# Altium schematic symbol library WE-CHSA.SchLib: 54 symbols
Pins are listed as number, name and electrical type; pins without a type are passive.

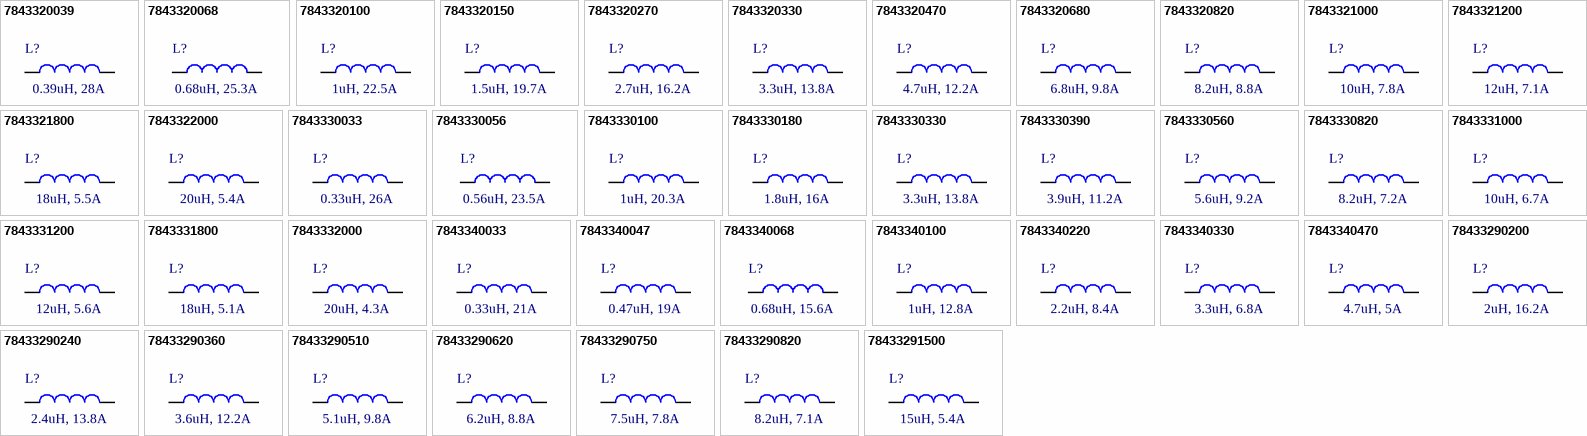
[diagram p0: symbols 7843320039 to 78433291500]

## 7843320039
designator L?, comment 0.39uH, 28A
WE-CHSA SMT High Current Inductor, size 1212, 0.39uH, 28A, 1.35mOhm; Manufacturer Part Number: 7843320039; Manufacturer: Wurth Elektronik; Case/Size Code: 1212; Saturation Current: 57A; Self Resonant Frequency: 100MHz; Category: Power Inductors; Match Code: WE-CHSA; ComponentLink1Description: Website Link; ComponentLink1URL: https://www.we-online.com/redexpert/article/7843320039?ad; ComponentLink2Description: Datasheet Link; ComponentLink2URL: https://www.we-online.com/redexpert/spec/7843320039?ad; Mount: Surface Mount; Operating Temperature Min: -55°C; Operating Temperature Max: 150°C; Packaging: Tape and Reel; Length: 12.2mm; Width: 12.2mm; Height: 11.75mm; Automotive: Yes; DC Resistance: 1.35mOhm; Inductance: 0.39uH; Rated Current: 28A
footprint WE-CHSA_1212
simulation model 1212_7843320039_0.39u
pins: 1, 2

## 7843320068
designator L?, comment 0.68uH, 25.3A
WE-CHSA SMT High Current Inductor, size 1212, 0.68uH, 25.3A, 1.7mOhm; Manufacturer Part Number: 7843320068; Manufacturer: Wurth Elektronik; Case/Size Code: 1212; Saturation Current: 41.4A; Self Resonant Frequency: 88MHz; Category: Power Inductors; Match Code: WE-CHSA; ComponentLink1Description: Website Link; ComponentLink1URL: https://www.we-online.com/redexpert/article/7843320068?ad; ComponentLink2Description: Datasheet Link; ComponentLink2URL: https://www.we-online.com/redexpert/spec/7843320068?ad; Mount: Surface Mount; Operating Temperature Min: -55°C; Operating Temperature Max: 150°C; Packaging: Tape and Reel; Length: 12.2mm; Width: 12.2mm; Height: 11.75mm; Automotive: Yes; DC Resistance: 1.7mOhm; Inductance: 0.68uH; Rated Current: 25.3A
footprint WE-CHSA_1212
simulation model 1212_7843320068_0.68u
pins: 1, 2

## 7843320100
designator L?, comment 1uH, 22.5A
WE-CHSA SMT High Current Inductor, size 1212, 1uH, 22.5A, 2mOhm; Manufacturer Part Number: 7843320100; Manufacturer: Wurth Elektronik; Case/Size Code: 1212; Saturation Current: 33.7A; Self Resonant Frequency: 81MHz; Category: Power Inductors; Match Code: WE-CHSA; ComponentLink1Description: Website Link; ComponentLink1URL: https://www.we-online.com/redexpert/article/7843320100?ad; ComponentLink2Description: Datasheet Link; ComponentLink2URL: https://www.we-online.com/redexpert/spec/7843320100?ad; Mount: Surface Mount; Operating Temperature Min: -55°C; Operating Temperature Max: 150°C; Packaging: Tape and Reel; Length: 12.2mm; Width: 12.2mm; Height: 11.75mm; Automotive: Yes; DC Resistance: 2mOhm; Inductance: 1uH; Rated Current: 22.5A
footprint WE-CHSA_1212
simulation model 1212_7843320100_1u
pins: 1, 2

## 7843320150
designator L?, comment 1.5uH, 19.7A
WE-CHSA SMT High Current Inductor, size 1212, 1.5uH, 19.7A, 2.7mOhm; Manufacturer Part Number: 7843320150; Manufacturer: Wurth Elektronik; Case/Size Code: 1212; Saturation Current: 28.2A; Self Resonant Frequency: 74MHz; Category: Power Inductors; Match Code: WE-CHSA; ComponentLink1Description: Website Link; ComponentLink1URL: https://www.we-online.com/redexpert/article/7843320150?ad; ComponentLink2Description: Datasheet Link; ComponentLink2URL: https://www.we-online.com/redexpert/spec/7843320150?ad; Mount: Surface Mount; Operating Temperature Min: -55°C; Operating Temperature Max: 150°C; Packaging: Tape and Reel; Length: 12.2mm; Width: 12.2mm; Height: 11.75mm; Automotive: Yes; DC Resistance: 2.7mOhm; Inductance: 1.5uH; Rated Current: 19.7A
footprint WE-CHSA_1212
simulation model 1212_7843320150_1.5u
pins: 1, 2

## 7843320270
designator L?, comment 2.7uH, 16.2A
WE-CHSA SMT High Current Inductor, size 1212, 2.7uH, 16.2A, 3.9mOhm; Manufacturer Part Number: 7843320270; Manufacturer: Wurth Elektronik; Case/Size Code: 1212; Saturation Current: 21.6A; Self Resonant Frequency: 50MHz; Category: Power Inductors; Match Code: WE-CHSA; ComponentLink1Description: Website Link; ComponentLink1URL: https://www.we-online.com/redexpert/article/7843320270?ad; ComponentLink2Description: Datasheet Link; ComponentLink2URL: https://www.we-online.com/redexpert/spec/7843320270?ad; Mount: Surface Mount; Operating Temperature Min: -55°C; Operating Temperature Max: 150°C; Packaging: Tape and Reel; Length: 12.2mm; Width: 12.2mm; Height: 11.75mm; Automotive: Yes; DC Resistance: 3.9mOhm; Inductance: 2.7uH; Rated Current: 16.2A
footprint WE-CHSA_1212
simulation model 1212_7843320270_2.7u
pins: 1, 2

## 7843320330
designator L?, comment 3.3uH, 13.8A
WE-CHSA SMT High Current Inductor, size 1212, 3.3uH, 13.8A, 5.3mOhm; Manufacturer Part Number: 7843320330; Manufacturer: Wurth Elektronik; Case/Size Code: 1212; Saturation Current: 19A; Self Resonant Frequency: 45MHz; Category: Power Inductors; Match Code: WE-CHSA; ComponentLink1Description: Website Link; ComponentLink1URL: https://www.we-online.com/redexpert/article/7843320330?ad; ComponentLink2Description: Datasheet Link; ComponentLink2URL: https://www.we-online.com/redexpert/spec/7843320330?ad; Mount: Surface Mount; Operating Temperature Min: -55°C; Operating Temperature Max: 150°C; Packaging: Tape and Reel; Length: 12.2mm; Width: 12.2mm; Height: 11.75mm; Automotive: Yes; DC Resistance: 5.3mOhm; Inductance: 3.3uH; Rated Current: 13.8A
footprint WE-CHSA_1212
simulation model 1212_7843320330_3.3u
pins: 1, 2

## 7843320470
designator L?, comment 4.7uH, 12.2A
WE-CHSA SMT High Current Inductor, size 1212, 4.7uH, 12.2A, 6.85mOhm; Manufacturer Part Number: 7843320470; Manufacturer: Wurth Elektronik; Case/Size Code: 1212; Saturation Current: 15.3A; Self Resonant Frequency: 37MHz; Category: Power Inductors; Match Code: WE-CHSA; ComponentLink1Description: Website Link; ComponentLink1URL: https://www.we-online.com/redexpert/article/7843320470?ad; ComponentLink2Description: Datasheet Link; ComponentLink2URL: https://www.we-online.com/redexpert/spec/7843320470?ad; Mount: Surface Mount; Operating Temperature Min: -55°C; Operating Temperature Max: 150°C; Packaging: Tape and Reel; Length: 12.2mm; Width: 12.2mm; Height: 11.75mm; Automotive: Yes; DC Resistance: 6.85mOhm; Inductance: 4.7uH; Rated Current: 12.2A
footprint WE-CHSA_1212
simulation model 1212_7843320470_4.7u
pins: 1, 2

## 7843320680
designator L?, comment 6.8uH, 9.8A
WE-CHSA SMT High Current Inductor, size 1212, 6.8uH, 9.8A, 9.9mOhm; Manufacturer Part Number: 7843320680; Manufacturer: Wurth Elektronik; Case/Size Code: 1212; Saturation Current: 13A; Self Resonant Frequency: 34MHz; Category: Power Inductors; Match Code: WE-CHSA; ComponentLink1Description: Website Link; ComponentLink1URL: https://www.we-online.com/redexpert/article/7843320680?ad; ComponentLink2Description: Datasheet Link; ComponentLink2URL: https://www.we-online.com/redexpert/spec/7843320680?ad; Mount: Surface Mount; Operating Temperature Min: -55°C; Operating Temperature Max: 150°C; Packaging: Tape and Reel; Length: 12.2mm; Width: 12.2mm; Height: 11.75mm; Automotive: Yes; DC Resistance: 9.9mOhm; Inductance: 6.8uH; Rated Current: 9.8A
footprint WE-CHSA_1212
simulation model 1212_7843320680_6.8u
pins: 1, 2

## 7843320820
designator L?, comment 8.2uH, 8.8A
WE-CHSA SMT High Current Inductor, size 1212, 8.2uH, 8.8A, 12.45mOhm; Manufacturer Part Number: 7843320820; Manufacturer: Wurth Elektronik; Case/Size Code: 1212; Saturation Current: 12.1A; Self Resonant Frequency: 30MHz; Category: Power Inductors; Match Code: WE-CHSA; ComponentLink1Description: Website Link; ComponentLink1URL: https://www.we-online.com/redexpert/article/7843320820?ad; ComponentLink2Description: Datasheet Link; ComponentLink2URL: https://www.we-online.com/redexpert/spec/7843320820?ad; Mount: Surface Mount; Operating Temperature Min: -55°C; Operating Temperature Max: 150°C; Packaging: Tape and Reel; Length: 12.2mm; Width: 12.2mm; Height: 11.75mm; Automotive: Yes; DC Resistance: 12.45mOhm; Inductance: 8.2uH; Rated Current: 8.8A
footprint WE-CHSA_1212
simulation model 1212_7843320820_8.2u
pins: 1, 2

## 7843321000
designator L?, comment 10uH, 7.8A
WE-CHSA SMT High Current Inductor, size 1212, 10uH, 7.8A, 16.95mOhm; Manufacturer Part Number: 7843321000; Manufacturer: Wurth Elektronik; Case/Size Code: 1212; Saturation Current: 10.8A; Self Resonant Frequency: 30MHz; Category: Power Inductors; Match Code: WE-CHSA; ComponentLink1Description: Website Link; ComponentLink1URL: https://www.we-online.com/redexpert/article/7843321000?ad; ComponentLink2Description: Datasheet Link; ComponentLink2URL: https://www.we-online.com/redexpert/spec/7843321000?ad; Mount: Surface Mount; Operating Temperature Min: -55°C; Operating Temperature Max: 150°C; Packaging: Tape and Reel; Length: 12.2mm; Width: 12.2mm; Height: 11.75mm; Automotive: Yes; DC Resistance: 16.95mOhm; Inductance: 10uH; Rated Current: 7.8A
footprint WE-CHSA_1212
simulation model 1212_7843321000_10u
pins: 1, 2

## 7843321200
designator L?, comment 12uH, 7.1A
WE-CHSA SMT High Current Inductor, size 1212, 12uH, 7.1A, 17.9mOhm; Manufacturer Part Number: 7843321200; Manufacturer: Wurth Elektronik; Case/Size Code: 1212; Saturation Current: 10.3A; Self Resonant Frequency: 28MHz; Category: Power Inductors; Match Code: WE-CHSA; ComponentLink1Description: Website Link; ComponentLink1URL: https://www.we-online.com/redexpert/article/7843321200?ad; ComponentLink2Description: Datasheet Link; ComponentLink2URL: https://www.we-online.com/redexpert/spec/7843321200?ad; Mount: Surface Mount; Operating Temperature Min: -55°C; Operating Temperature Max: 150°C; Packaging: Tape and Reel; Length: 12.2mm; Width: 12.2mm; Height: 11.75mm; Automotive: Yes; DC Resistance: 17.9mOhm; Inductance: 12uH; Rated Current: 7.1A
footprint WE-CHSA_1212
simulation model 1212_7843321200_12u
pins: 1, 2

## 7843321800
designator L?, comment 18uH, 5.5A
WE-CHSA SMT High Current Inductor, size 1212, 18uH, 5.5A, 32mOhm; Manufacturer Part Number: 7843321800; Manufacturer: Wurth Elektronik; Case/Size Code: 1212; Saturation Current: 7.7A; Self Resonant Frequency: 21MHz; Category: Power Inductors; Match Code: WE-CHSA; ComponentLink1Description: Website Link; ComponentLink1URL: https://www.we-online.com/redexpert/article/7843321800?ad; ComponentLink2Description: Datasheet Link; ComponentLink2URL: https://www.we-online.com/redexpert/spec/7843321800?ad; Mount: Surface Mount; Operating Temperature Min: -55°C; Operating Temperature Max: 150°C; Packaging: Tape and Reel; Length: 12.2mm; Width: 12.2mm; Height: 11.75mm; Automotive: Yes; DC Resistance: 32mOhm; Inductance: 18uH; Rated Current: 5.5A
footprint WE-CHSA_1212
simulation model 1212_7843321800_18u
pins: 1, 2

## 7843322000
designator L?, comment 20uH, 5.4A
WE-CHSA SMT High Current Inductor, size 1212, 20uH, 5.4A, 35.9mOhm; Manufacturer Part Number: 7843322000; Manufacturer: Wurth Elektronik; Case/Size Code: 1212; Saturation Current: 7A; Self Resonant Frequency: 19MHz; Category: Power Inductors; Match Code: WE-CHSA; ComponentLink1Description: Website Link; ComponentLink1URL: https://www.we-online.com/redexpert/article/7843322000?ad; ComponentLink2Description: Datasheet Link; ComponentLink2URL: https://www.we-online.com/redexpert/spec/7843322000?ad; Mount: Surface Mount; Operating Temperature Min: -55°C; Operating Temperature Max: 150°C; Packaging: Tape and Reel; Length: 12.2mm; Width: 12.2mm; Height: 11.75mm; Automotive: Yes; DC Resistance: 35.9mOhm; Inductance: 20uH; Rated Current: 5.4A
footprint WE-CHSA_1212
simulation model 1212_7843322000_20u
pins: 1, 2

## 7843330033
designator L?, comment 0.33uH, 26A
WE-CHSA SMT High Current Inductor, size 1011, 0.33uH, 26A, 1.4mOhm; Manufacturer Part Number: 7843330033; Manufacturer: Wurth Elektronik; Case/Size Code: 1011; Saturation Current: 54.5A; Self Resonant Frequency: 230MHz; Category: Power Inductors; Match Code: WE-CHSA; ComponentLink1Description: Website Link; ComponentLink1URL: https://www.we-online.com/redexpert/article/7843330033?ad; ComponentLink2Description: Datasheet Link; ComponentLink2URL: https://www.we-online.com/redexpert/spec/7843330033?ad; Mount: Surface Mount; Operating Temperature Min: -55°C; Operating Temperature Max: 150°C; Packaging: Tape and Reel; Length: 10.6mm; Width: 10.6mm; Height: 11mm; Automotive: Yes; DC Resistance: 1.4mOhm; Inductance: 0.33uH; Rated Current: 26A
footprint WE-CHSA_1011
simulation model 1011_7843330033_0.33u
pins: 1, 2

## 7843330056
designator L?, comment 0.56uH, 23.5A
WE-CHSA SMT High Current Inductor, size 1011, 0.56uH, 23.5A, 1.7mOhm; Manufacturer Part Number: 7843330056; Manufacturer: Wurth Elektronik; Case/Size Code: 1011; Saturation Current: 43.4A; Self Resonant Frequency: 100MHz; Category: Power Inductors; Match Code: WE-CHSA; ComponentLink1Description: Website Link; ComponentLink1URL: https://www.we-online.com/redexpert/article/7843330056?ad; ComponentLink2Description: Datasheet Link; ComponentLink2URL: https://www.we-online.com/redexpert/spec/7843330056?ad; Mount: Surface Mount; Operating Temperature Min: -55°C; Operating Temperature Max: 150°C; Packaging: Tape and Reel; Length: 10.6mm; Width: 10.6mm; Height: 11mm; Automotive: Yes; DC Resistance: 1.7mOhm; Inductance: 0.56uH; Rated Current: 23.5A
footprint WE-CHSA_1011
simulation model 1011_7843330056_0.56u
pins: 1, 2

## 7843330100
designator L?, comment 1uH, 20.3A
WE-CHSA SMT High Current Inductor, size 1011, 1uH, 20.3A, 2.4mOhm; Manufacturer Part Number: 7843330100; Manufacturer: Wurth Elektronik; Case/Size Code: 1011; Saturation Current: 34.8A; Self Resonant Frequency: 88MHz; Category: Power Inductors; Match Code: WE-CHSA; ComponentLink1Description: Website Link; ComponentLink1URL: https://www.we-online.com/redexpert/article/7843330100?ad; ComponentLink2Description: Datasheet Link; ComponentLink2URL: https://www.we-online.com/redexpert/spec/7843330100?ad; Mount: Surface Mount; Operating Temperature Min: -55°C; Operating Temperature Max: 150°C; Packaging: Tape and Reel; Length: 10.6mm; Width: 10.6mm; Height: 11mm; Automotive: Yes; DC Resistance: 2.4mOhm; Inductance: 1uH; Rated Current: 20.3A
footprint WE-CHSA_1011
simulation model 1011_7843330100_1u
pins: 1, 2

## 7843330180
designator L?, comment 1.8uH, 16A
WE-CHSA SMT High Current Inductor, size 1011, 1.8uH, 16A, 3.9mOhm; Manufacturer Part Number: 7843330180; Manufacturer: Wurth Elektronik; Case/Size Code: 1011; Saturation Current: 25.9A; Self Resonant Frequency: 67MHz; Category: Power Inductors; Match Code: WE-CHSA; ComponentLink1Description: Website Link; ComponentLink1URL: https://www.we-online.com/redexpert/article/7843330180?ad; ComponentLink2Description: Datasheet Link; ComponentLink2URL: https://www.we-online.com/redexpert/spec/7843330180?ad; Mount: Surface Mount; Operating Temperature Min: -55°C; Operating Temperature Max: 150°C; Packaging: Tape and Reel; Length: 10.6mm; Width: 10.6mm; Height: 11mm; Automotive: Yes; DC Resistance: 3.9mOhm; Inductance: 1.8uH; Rated Current: 16A
footprint WE-CHSA_1011
simulation model 1011_7843330180_1.8u
pins: 1, 2

## 7843330330
designator L?, comment 3.3uH, 13.8A
WE-CHSA SMT High Current Inductor, size 1011, 3.3uH, 13.8A, 5.4mOhm; Manufacturer Part Number: 7843330330; Manufacturer: Wurth Elektronik; Case/Size Code: 1011; Saturation Current: 20.5A; Self Resonant Frequency: 55MHz; Category: Power Inductors; Match Code: WE-CHSA; ComponentLink1Description: Website Link; ComponentLink1URL: https://www.we-online.com/redexpert/article/7843330330?ad; ComponentLink2Description: Datasheet Link; ComponentLink2URL: https://www.we-online.com/redexpert/spec/7843330330?ad; Mount: Surface Mount; Operating Temperature Min: -55°C; Operating Temperature Max: 150°C; Packaging: Tape and Reel; Length: 10.6mm; Width: 10.6mm; Height: 11mm; Automotive: Yes; DC Resistance: 5.4mOhm; Inductance: 3.3uH; Rated Current: 13.8A
footprint WE-CHSA_1011
simulation model 1011_7843330330_3.3u
pins: 1, 2

## 7843330390
designator L?, comment 3.9uH, 11.2A
WE-CHSA SMT High Current Inductor, size 1011, 3.9uH, 11.2A, 7.25mOhm; Manufacturer Part Number: 7843330390; Manufacturer: Wurth Elektronik; Case/Size Code: 1011; Saturation Current: 17.8A; Self Resonant Frequency: 50MHz; Category: Power Inductors; Match Code: WE-CHSA; ComponentLink1Description: Website Link; ComponentLink1URL: https://www.we-online.com/redexpert/article/7843330390?ad; ComponentLink2Description: Datasheet Link; ComponentLink2URL: https://www.we-online.com/redexpert/spec/7843330390?ad; Mount: Surface Mount; Operating Temperature Min: -55°C; Operating Temperature Max: 150°C; Packaging: Tape and Reel; Length: 10.6mm; Width: 10.6mm; Height: 11mm; Automotive: Yes; DC Resistance: 7.25mOhm; Inductance: 3.9uH; Rated Current: 11.2A
footprint WE-CHSA_1011
simulation model 1011_7843330390_3.9u
pins: 1, 2

## 7843330560
designator L?, comment 5.6uH, 9.2A
WE-CHSA SMT High Current Inductor, size 1011, 5.6uH, 9.2A, 10.85mOhm; Manufacturer Part Number: 7843330560; Manufacturer: Wurth Elektronik; Case/Size Code: 1011; Saturation Current: 14.9A; Self Resonant Frequency: 41MHz; Category: Power Inductors; Match Code: WE-CHSA; ComponentLink1Description: Website Link; ComponentLink1URL: https://www.we-online.com/redexpert/article/7843330560?ad; ComponentLink2Description: Datasheet Link; ComponentLink2URL: https://www.we-online.com/redexpert/spec/7843330560?ad; Mount: Surface Mount; Operating Temperature Min: -55°C; Operating Temperature Max: 150°C; Packaging: Tape and Reel; Length: 10.6mm; Width: 10.6mm; Height: 11mm; Automotive: Yes; DC Resistance: 10.85mOhm; Inductance: 5.6uH; Rated Current: 9.2A
footprint WE-CHSA_1011
simulation model 1011_7843330560_5.6u
pins: 1, 2

## 7843330820
designator L?, comment 8.2uH, 7.2A
WE-CHSA SMT High Current Inductor, size 1011, 8.2uH, 7.2A, 15.9mOhm; Manufacturer Part Number: 7843330820; Manufacturer: Wurth Elektronik; Case/Size Code: 1011; Saturation Current: 12.8A; Self Resonant Frequency: 34MHz; Category: Power Inductors; Match Code: WE-CHSA; ComponentLink1Description: Website Link; ComponentLink1URL: https://www.we-online.com/redexpert/article/7843330820?ad; ComponentLink2Description: Datasheet Link; ComponentLink2URL: https://www.we-online.com/redexpert/spec/7843330820?ad; Mount: Surface Mount; Operating Temperature Min: -55°C; Operating Temperature Max: 150°C; Packaging: Tape and Reel; Length: 10.6mm; Width: 10.6mm; Height: 11mm; Automotive: Yes; DC Resistance: 15.9mOhm; Inductance: 8.2uH; Rated Current: 7.2A
footprint WE-CHSA_1011
simulation model 1011_7843330820_8.2u
pins: 1, 2

## 7843331000
designator L?, comment 10uH, 6.7A
WE-CHSA SMT High Current Inductor, size 1011, 10uH, 6.7A, 21.5mOhm; Manufacturer Part Number: 7843331000; Manufacturer: Wurth Elektronik; Case/Size Code: 1011; Saturation Current: 10.7A; Self Resonant Frequency: 30MHz; Category: Power Inductors; Match Code: WE-CHSA; ComponentLink1Description: Website Link; ComponentLink1URL: https://www.we-online.com/redexpert/article/7843331000?ad; ComponentLink2Description: Datasheet Link; ComponentLink2URL: https://www.we-online.com/redexpert/spec/7843331000?ad; Mount: Surface Mount; Operating Temperature Min: -55°C; Operating Temperature Max: 150°C; Packaging: Tape and Reel; Length: 10.6mm; Width: 10.6mm; Height: 11mm; Automotive: Yes; DC Resistance: 21.5mOhm; Inductance: 10uH; Rated Current: 6.7A
footprint WE-CHSA_1011
simulation model 1011_7843331000_10u
pins: 1, 2

## 7843331200
designator L?, comment 12uH, 5.6A
WE-CHSA SMT High Current Inductor, size 1011, 12uH, 5.6A, 27.7mOhm; Manufacturer Part Number: 7843331200; Manufacturer: Wurth Elektronik; Case/Size Code: 1011; Saturation Current: 9.1A; Self Resonant Frequency: 28MHz; Category: Power Inductors; Match Code: WE-CHSA; ComponentLink1Description: Website Link; ComponentLink1URL: https://www.we-online.com/redexpert/article/7843331200?ad; ComponentLink2Description: Datasheet Link; ComponentLink2URL: https://www.we-online.com/redexpert/spec/7843331200?ad; Mount: Surface Mount; Operating Temperature Min: -55°C; Operating Temperature Max: 150°C; Packaging: Tape and Reel; Length: 10.6mm; Width: 10.6mm; Height: 11mm; Automotive: Yes; DC Resistance: 27.7mOhm; Inductance: 12uH; Rated Current: 5.6A
footprint WE-CHSA_1011
simulation model 1011_7843331200_12u
pins: 1, 2

## 7843331800
designator L?, comment 18uH, 5.1A
WE-CHSA SMT High Current Inductor, size 1011, 18uH, 5.1A, 34.25mOhm; Manufacturer Part Number: 7843331800; Manufacturer: Wurth Elektronik; Case/Size Code: 1011; Saturation Current: 8.5A; Self Resonant Frequency: 19MHz; Category: Power Inductors; Match Code: WE-CHSA; ComponentLink1Description: Website Link; ComponentLink1URL: https://www.we-online.com/redexpert/article/7843331800?ad; ComponentLink2Description: Datasheet Link; ComponentLink2URL: https://www.we-online.com/redexpert/spec/7843331800?ad; Mount: Surface Mount; Operating Temperature Min: -55°C; Operating Temperature Max: 150°C; Packaging: Tape and Reel; Length: 10.6mm; Width: 10.6mm; Height: 11mm; Automotive: Yes; DC Resistance: 34.25mOhm; Inductance: 18uH; Rated Current: 5.1A
footprint WE-CHSA_1011
simulation model 1011_7843331800_18u
pins: 1, 2

## 7843332000
designator L?, comment 20uH, 4.3A
WE-CHSA SMT High Current Inductor, size 1011, 20uH, 4.3A, 50.8mOhm; Manufacturer Part Number: 7843332000; Manufacturer: Wurth Elektronik; Case/Size Code: 1011; Saturation Current: 7A; Self Resonant Frequency: 20MHz; Category: Power Inductors; Match Code: WE-CHSA; ComponentLink1Description: Website Link; ComponentLink1URL: https://www.we-online.com/redexpert/article/7843332000?ad; ComponentLink2Description: Datasheet Link; ComponentLink2URL: https://www.we-online.com/redexpert/spec/7843332000?ad; Mount: Surface Mount; Operating Temperature Min: -55°C; Operating Temperature Max: 150°C; Packaging: Tape and Reel; Length: 10.6mm; Width: 10.6mm; Height: 11mm; Automotive: Yes; DC Resistance: 50.8mOhm; Inductance: 20uH; Rated Current: 4.3A
footprint WE-CHSA_1011
simulation model 1011_7843332000_20u
pins: 1, 2

## 7843340033
designator L?, comment 0.33uH, 21A
WE-CHSA SMT High Current Inductor, size 8090, 0.33uH, 21A, 1.75mOhm; Manufacturer Part Number: 7843340033; Manufacturer: Wurth Elektronik; Case/Size Code: 8090; Saturation Current: 36A; Self Resonant Frequency: 196MHz; Category: Power Inductors; Match Code: WE-CHSA; ComponentLink1Description: Website Link; ComponentLink1URL: https://www.we-online.com/redexpert/article/7843340033?ad; ComponentLink2Description: Datasheet Link; ComponentLink2URL: https://www.we-online.com/redexpert/spec/7843340033?ad; Mount: Surface Mount; Operating Temperature Min: -55°C; Operating Temperature Max: 150°C; Packaging: Tape and Reel; Length: 8.1mm; Width: 8.1mm; Height: 9mm; Automotive: Yes; DC Resistance: 1.75mOhm; Inductance: 0.33uH; Rated Current: 21A
footprint WE-CHSA_8090
simulation model 8090_7843340033_0.33u
pins: 1, 2

## 7843340047
designator L?, comment 0.47uH, 19A
WE-CHSA SMT High Current Inductor, size 8090, 0.47uH, 19A, 2.3mOhm; Manufacturer Part Number: 7843340047; Manufacturer: Wurth Elektronik; Case/Size Code: 8090; Saturation Current: 29.7A; Self Resonant Frequency: 146MHz; Category: Power Inductors; Match Code: WE-CHSA; ComponentLink1Description: Website Link; ComponentLink1URL: https://www.we-online.com/redexpert/article/7843340047?ad; ComponentLink2Description: Datasheet Link; ComponentLink2URL: https://www.we-online.com/redexpert/spec/7843340047?ad; Mount: Surface Mount; Operating Temperature Min: -55°C; Operating Temperature Max: 150°C; Packaging: Tape and Reel; Length: 8.1mm; Width: 8.1mm; Height: 9mm; Automotive: Yes; DC Resistance: 2.3mOhm; Inductance: 0.47uH; Rated Current: 19A
footprint WE-CHSA_8090
simulation model 8090_7843340047_0.47u
pins: 1, 2

## 7843340068
designator L?, comment 0.68uH, 15.6A
WE-CHSA SMT High Current Inductor, size 8090, 0.68uH, 15.6A, 3.45mOhm; Manufacturer Part Number: 7843340068; Manufacturer: Wurth Elektronik; Case/Size Code: 8090; Saturation Current: 24.8A; Self Resonant Frequency: 132MHz; Category: Power Inductors; Match Code: WE-CHSA; ComponentLink1Description: Website Link; ComponentLink1URL: https://www.we-online.com/redexpert/article/7843340068?ad; ComponentLink2Description: Datasheet Link; ComponentLink2URL: https://www.we-online.com/redexpert/spec/7843340068?ad; Mount: Surface Mount; Operating Temperature Min: -55°C; Operating Temperature Max: 150°C; Packaging: Tape and Reel; Length: 8.1mm; Width: 8.1mm; Height: 9mm; Automotive: Yes; DC Resistance: 3.45mOhm; Inductance: 0.68uH; Rated Current: 15.6A
footprint WE-CHSA_8090
simulation model 8090_7843340068_0.68u
pins: 1, 2

## 7843340100
designator L?, comment 1uH, 12.8A
WE-CHSA SMT High Current Inductor, size 8090, 1uH, 12.8A, 4.9mOhm; Manufacturer Part Number: 7843340100; Manufacturer: Wurth Elektronik; Case/Size Code: 8090; Saturation Current: 21.3A; Self Resonant Frequency: 100MHz; Category: Power Inductors; Match Code: WE-CHSA; ComponentLink1Description: Website Link; ComponentLink1URL: https://www.we-online.com/redexpert/article/7843340100?ad; ComponentLink2Description: Datasheet Link; ComponentLink2URL: https://www.we-online.com/redexpert/spec/7843340100?ad; Mount: Surface Mount; Operating Temperature Min: -55°C; Operating Temperature Max: 150°C; Packaging: Tape and Reel; Length: 8.1mm; Width: 8.1mm; Height: 9mm; Automotive: Yes; DC Resistance: 4.9mOhm; Inductance: 1uH; Rated Current: 12.8A
footprint WE-CHSA_8090
simulation model 8090_7843340100_1u
pins: 1, 2

## 7843340220
designator L?, comment 2.2uH, 8.4A
WE-CHSA SMT High Current Inductor, size 8090, 2.2uH, 8.4A, 10mOhm; Manufacturer Part Number: 7843340220; Manufacturer: Wurth Elektronik; Case/Size Code: 8090; Saturation Current: 14.7A; Self Resonant Frequency: 80MHz; Category: Power Inductors; Match Code: WE-CHSA; ComponentLink1Description: Website Link; ComponentLink1URL: https://www.we-online.com/redexpert/article/7843340220?ad; ComponentLink2Description: Datasheet Link; ComponentLink2URL: https://www.we-online.com/redexpert/spec/7843340220?ad; Mount: Surface Mount; Operating Temperature Min: -55°C; Operating Temperature Max: 150°C; Packaging: Tape and Reel; Length: 8.1mm; Width: 8.1mm; Height: 9mm; Automotive: Yes; DC Resistance: 10mOhm; Inductance: 2.2uH; Rated Current: 8.4A
footprint WE-CHSA_8090
simulation model 8090_7843340220_2.2u
pins: 1, 2

## 7843340330
designator L?, comment 3.3uH, 6.8A
WE-CHSA SMT High Current Inductor, size 8090, 3.3uH, 6.8A, 15.35mOhm; Manufacturer Part Number: 7843340330; Manufacturer: Wurth Elektronik; Case/Size Code: 8090; Saturation Current: 12.3A; Self Resonant Frequency: 67MHz; Category: Power Inductors; Match Code: WE-CHSA; ComponentLink1Description: Website Link; ComponentLink1URL: https://www.we-online.com/redexpert/article/7843340330?ad; ComponentLink2Description: Datasheet Link; ComponentLink2URL: https://www.we-online.com/redexpert/spec/7843340330?ad; Mount: Surface Mount; Operating Temperature Min: -55°C; Operating Temperature Max: 150°C; Packaging: Tape and Reel; Length: 8.1mm; Width: 8.1mm; Height: 9mm; Automotive: Yes; DC Resistance: 15.35mOhm; Inductance: 3.3uH; Rated Current: 6.8A
footprint WE-CHSA_8090
simulation model 8090_7843340330_3.3u
pins: 1, 2

## 7843340470
designator L?, comment 4.7uH, 5A
WE-CHSA SMT High Current Inductor, size 8090, 4.7uH, 5A, 24.1mOhm; Manufacturer Part Number: 7843340470; Manufacturer: Wurth Elektronik; Case/Size Code: 8090; Saturation Current: 9.6A; Self Resonant Frequency: 50MHz; Category: Power Inductors; Match Code: WE-CHSA; ComponentLink1Description: Website Link; ComponentLink1URL: https://www.we-online.com/redexpert/article/7843340470?ad; ComponentLink2Description: Datasheet Link; ComponentLink2URL: https://www.we-online.com/redexpert/spec/7843340470?ad; Mount: Surface Mount; Operating Temperature Min: -55°C; Operating Temperature Max: 150°C; Packaging: Tape and Reel; Length: 8.1mm; Width: 8.1mm; Height: 9mm; Automotive: Yes; DC Resistance: 24.1mOhm; Inductance: 4.7uH; Rated Current: 5A
footprint WE-CHSA_8090
simulation model 8090_7843340470_4.7u
pins: 1, 2

## 78433290200
designator L?, comment 2uH, 16.2A
WE-CHSA Performance SMT High Current Inductor, size 1212, 2uH, 16.2A, 3.9mOhm; Manufacturer Part Number: 78433290200; Manufacturer: Wurth Elektronik; Case/Size Code: 1212; Saturation Current: 29A; Self Resonant Frequency: 64MHz; Category: Power Inductors; Match Code: WE-CHSA; ComponentLink1Description: Website Link; ComponentLink1URL: https://www.we-online.com/redexpert/article/78433290200?ad; ComponentLink2Description: Datasheet Link; ComponentLink2URL: https://www.we-online.com/redexpert/spec/78433290200?ad; Mount: Surface Mount; Operating Temperature Min: -55°C; Operating Temperature Max: 150°C; Packaging: Tape and Reel; Length: 12.2mm; Width: 12.2mm; Height: 11.75mm; Automotive: Yes; DC Resistance: 3.9mOhm; Inductance: 2uH; Rated Current: 16.2A
footprint WE-CHSA_1212
simulation model 1212_78433290200_2u
pins: 1, 2

## 78433290240
designator L?, comment 2.4uH, 13.8A
WE-CHSA Performance SMT High Current Inductor, size 1212, 2.4uH, 13.8A, 5.3mOhm; Manufacturer Part Number: 78433290240; Manufacturer: Wurth Elektronik; Case/Size Code: 1212; Saturation Current: 24.8A; Self Resonant Frequency: 60MHz; Category: Power Inductors; Match Code: WE-CHSA; ComponentLink1Description: Website Link; ComponentLink1URL: https://www.we-online.com/redexpert/article/78433290240?ad; ComponentLink2Description: Datasheet Link; ComponentLink2URL: https://www.we-online.com/redexpert/spec/78433290240?ad; Mount: Surface Mount; Operating Temperature Min: -55°C; Operating Temperature Max: 150°C; Packaging: Tape and Reel; Length: 12.2mm; Width: 12.2mm; Height: 11.75mm; Automotive: Yes; DC Resistance: 5.3mOhm; Inductance: 2.4uH; Rated Current: 13.8A
footprint WE-CHSA_1212
simulation model 1212_78433290240_2.4u
pins: 1, 2

## 78433290360
designator L?, comment 3.6uH, 12.2A
WE-CHSA Performance SMT High Current Inductor, size 1212, 3.6uH, 12.2A, 6.85mOhm; Manufacturer Part Number: 78433290360; Manufacturer: Wurth Elektronik; Case/Size Code: 1212; Saturation Current: 20.6A; Self Resonant Frequency: 48MHz; Category: Power Inductors; Match Code: WE-CHSA; ComponentLink1Description: Website Link; ComponentLink1URL: https://www.we-online.com/redexpert/article/78433290360?ad; ComponentLink2Description: Datasheet Link; ComponentLink2URL: https://www.we-online.com/redexpert/spec/78433290360?ad; Mount: Surface Mount; Operating Temperature Min: -55°C; Operating Temperature Max: 150°C; Packaging: Tape and Reel; Length: 12.2mm; Width: 12.2mm; Height: 11.75mm; Automotive: Yes; DC Resistance: 6.85mOhm; Inductance: 3.6uH; Rated Current: 12.2A
footprint WE-CHSA_1212
simulation model 1212_78433290360_3.6u
pins: 1, 2

## 78433290510
designator L?, comment 5.1uH, 9.8A
WE-CHSA Performance SMT High Current Inductor, size 1212, 5.1uH, 9.8A, 9.9mOhm; Manufacturer Part Number: 78433290510; Manufacturer: Wurth Elektronik; Case/Size Code: 1212; Saturation Current: 17A; Self Resonant Frequency: 40MHz; Category: Power Inductors; Match Code: WE-CHSA; ComponentLink1Description: Website Link; ComponentLink1URL: https://www.we-online.com/redexpert/article/78433290510?ad; ComponentLink2Description: Datasheet Link; ComponentLink2URL: https://www.we-online.com/redexpert/spec/78433290510?ad; Mount: Surface Mount; Operating Temperature Min: -55°C; Operating Temperature Max: 150°C; Packaging: Tape and Reel; Length: 12.2mm; Width: 12.2mm; Height: 11.75mm; Automotive: Yes; DC Resistance: 9.9mOhm; Inductance: 5.1uH; Rated Current: 9.8A
footprint WE-CHSA_1212
simulation model 1212_78433290510_5.1u
pins: 1, 2

## 78433290620
designator L?, comment 6.2uH, 8.8A
WE-CHSA Performance SMT High Current Inductor, size 1212, 6.2uH, 8.8A, 12.45mOhm; Manufacturer Part Number: 78433290620; Manufacturer: Wurth Elektronik; Case/Size Code: 1212; Saturation Current: 16A; Self Resonant Frequency: 37MHz; Category: Power Inductors; Match Code: WE-CHSA; ComponentLink1Description: Website Link; ComponentLink1URL: https://www.we-online.com/redexpert/article/78433290620?ad; ComponentLink2Description: Datasheet Link; ComponentLink2URL: https://www.we-online.com/redexpert/spec/78433290620?ad; Mount: Surface Mount; Operating Temperature Min: -55°C; Operating Temperature Max: 150°C; Packaging: Tape and Reel; Length: 12.2mm; Width: 12.2mm; Height: 11.75mm; Automotive: Yes; DC Resistance: 12.45mOhm; Inductance: 6.2uH; Rated Current: 8.8A
footprint WE-CHSA_1212
simulation model 1212_78433290620_6.2u
pins: 1, 2

## 78433290750
designator L?, comment 7.5uH, 7.8A
WE-CHSA Performance SMT High Current Inductor, size 1212, 7.5uH, 7.8A, 16.95mOhm; Manufacturer Part Number: 78433290750; Manufacturer: Wurth Elektronik; Case/Size Code: 1212; Saturation Current: 14.6A; Self Resonant Frequency: 34MHz; Category: Power Inductors; Match Code: WE-CHSA; ComponentLink1Description: Website Link; ComponentLink1URL: https://www.we-online.com/redexpert/article/78433290750?ad; ComponentLink2Description: Datasheet Link; ComponentLink2URL: https://www.we-online.com/redexpert/spec/78433290750?ad; Mount: Surface Mount; Operating Temperature Min: -55°C; Operating Temperature Max: 150°C; Packaging: Tape and Reel; Length: 12.2mm; Width: 12.2mm; Height: 11.75mm; Automotive: Yes; DC Resistance: 16.95mOhm; Inductance: 7.5uH; Rated Current: 7.8A
footprint WE-CHSA_1212
simulation model 1212_78433290750_7.5u
pins: 1, 2

## 78433290820
designator L?, comment 8.2uH, 7.1A
WE-CHSA Performance SMT High Current Inductor, size 1212, 8.2uH, 7.1A, 17.9mOhm; Manufacturer Part Number: 78433290820; Manufacturer: Wurth Elektronik; Case/Size Code: 1212; Saturation Current: 13.7A; Self Resonant Frequency: 32MHz; Category: Power Inductors; Match Code: WE-CHSA; ComponentLink1Description: Website Link; ComponentLink1URL: https://www.we-online.com/redexpert/article/78433290820?ad; ComponentLink2Description: Datasheet Link; ComponentLink2URL: https://www.we-online.com/redexpert/spec/78433290820?ad; Mount: Surface Mount; Operating Temperature Min: -55°C; Operating Temperature Max: 150°C; Packaging: Tape and Reel; Length: 12.2mm; Width: 12.2mm; Height: 11.75mm; Automotive: Yes; DC Resistance: 17.9mOhm; Inductance: 8.2uH; Rated Current: 7.1A
footprint WE-CHSA_1212
simulation model 1212_78433290820_8.2u
pins: 1, 2

## 78433291500
designator L?, comment 15uH, 5.4A
WE-CHSA Performance SMT High Current Inductor, size 1212, 15uH, 5.4A, 35.9mOhm; Manufacturer Part Number: 78433291500; Manufacturer: Wurth Elektronik; Case/Size Code: 1212; Saturation Current: 9.8A; Self Resonant Frequency: 23MHz; Category: Power Inductors; Match Code: WE-CHSA; ComponentLink1Description: Website Link; ComponentLink1URL: https://www.we-online.com/redexpert/article/78433291500?ad; ComponentLink2Description: Datasheet Link; ComponentLink2URL: https://www.we-online.com/redexpert/spec/78433291500?ad; Mount: Surface Mount; Operating Temperature Min: -55°C; Operating Temperature Max: 150°C; Packaging: Tape and Reel; Length: 12.2mm; Width: 12.2mm; Height: 11.75mm; Automotive: Yes; DC Resistance: 35.9mOhm; Inductance: 15uH; Rated Current: 5.4A
footprint WE-CHSA_1212
simulation model 1212_78433291500_15u
pins: 1, 2

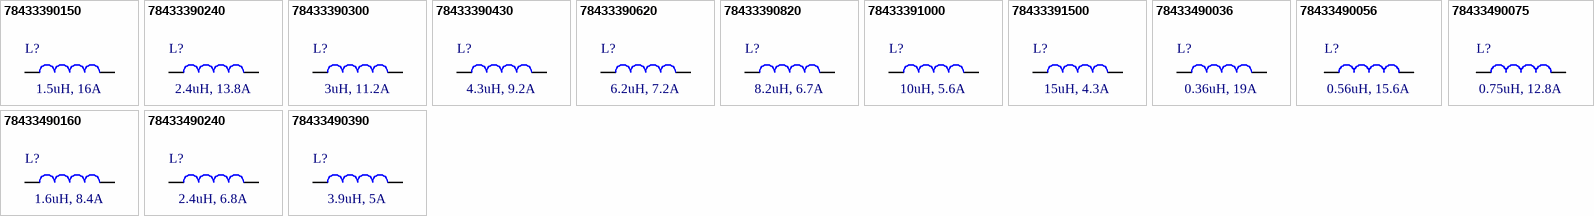
[diagram p1: symbols 78433390150 to 78433490390]

## 78433390150
designator L?, comment 1.5uH, 16A
WE-CHSA Performance SMT High Current Inductor, size 1011, 1.5uH, 16A, 3.9mOhm; Manufacturer Part Number: 78433390150; Manufacturer: Wurth Elektronik; Case/Size Code: 1011; Saturation Current: 37.4A; Self Resonant Frequency: 67MHz; Category: Power Inductors; Match Code: WE-CHSA; ComponentLink1Description: Website Link; ComponentLink1URL: https://www.we-online.com/redexpert/article/78433390150?ad; ComponentLink2Description: Datasheet Link; ComponentLink2URL: https://www.we-online.com/redexpert/spec/78433390150?ad; Mount: Surface Mount; Operating Temperature Min: -55°C; Operating Temperature Max: 150°C; Packaging: Tape and Reel; Length: 10.6mm; Width: 10.6mm; Height: 11mm; Automotive: Yes; DC Resistance: 3.9mOhm; Inductance: 1.5uH; Rated Current: 16A
footprint WE-CHSA_1011
simulation model 1011_78433390150_1.5u
pins: 1, 2

## 78433390240
designator L?, comment 2.4uH, 13.8A
WE-CHSA Performance SMT High Current Inductor, size 1011, 2.4uH, 13.8A, 5.4mOhm; Manufacturer Part Number: 78433390240; Manufacturer: Wurth Elektronik; Case/Size Code: 1011; Saturation Current: 28.7A; Self Resonant Frequency: 55MHz; Category: Power Inductors; Match Code: WE-CHSA; ComponentLink1Description: Website Link; ComponentLink1URL: https://www.we-online.com/redexpert/article/78433390240?ad; ComponentLink2Description: Datasheet Link; ComponentLink2URL: https://www.we-online.com/redexpert/spec/78433390240?ad; Mount: Surface Mount; Operating Temperature Min: -55°C; Operating Temperature Max: 150°C; Packaging: Tape and Reel; Length: 10.6mm; Width: 10.6mm; Height: 11mm; Automotive: Yes; DC Resistance: 5.4mOhm; Inductance: 2.4uH; Rated Current: 13.8A
footprint WE-CHSA_1011
simulation model 1011_78433390240_2.4u
pins: 1, 2

## 78433390300
designator L?, comment 3uH, 11.2A
WE-CHSA Performance SMT High Current Inductor, size 1011, 3uH, 11.2A, 7.25mOhm; Manufacturer Part Number: 78433390300; Manufacturer: Wurth Elektronik; Case/Size Code: 1011; Saturation Current: 26.2A; Self Resonant Frequency: 50MHz; Category: Power Inductors; Match Code: WE-CHSA; ComponentLink1Description: Website Link; ComponentLink1URL: https://www.we-online.com/redexpert/article/78433390300?ad; ComponentLink2Description: Datasheet Link; ComponentLink2URL: https://www.we-online.com/redexpert/spec/78433390300?ad; Mount: Surface Mount; Operating Temperature Min: -55°C; Operating Temperature Max: 150°C; Packaging: Tape and Reel; Length: 10.6mm; Width: 10.6mm; Height: 11mm; Automotive: Yes; DC Resistance: 7.25mOhm; Inductance: 3uH; Rated Current: 11.2A
footprint WE-CHSA_1011
simulation model 1011_78433390300_3u
pins: 1, 2

## 78433390430
designator L?, comment 4.3uH, 9.2A
WE-CHSA Performance SMT High Current Inductor, size 1011, 4.3uH, 9.2A, 10.85mOhm; Manufacturer Part Number: 78433390430; Manufacturer: Wurth Elektronik; Case/Size Code: 1011; Saturation Current: 20.6A; Self Resonant Frequency: 41MHz; Category: Power Inductors; Match Code: WE-CHSA; ComponentLink1Description: Website Link; ComponentLink1URL: https://www.we-online.com/redexpert/article/78433390430?ad; ComponentLink2Description: Datasheet Link; ComponentLink2URL: https://www.we-online.com/redexpert/spec/78433390430?ad; Mount: Surface Mount; Operating Temperature Min: -55°C; Operating Temperature Max: 150°C; Packaging: Tape and Reel; Length: 10.6mm; Width: 10.6mm; Height: 11mm; Automotive: Yes; DC Resistance: 10.85mOhm; Inductance: 4.3uH; Rated Current: 9.2A
footprint WE-CHSA_1011
simulation model 1011_78433390430_4.3u
pins: 1, 2

## 78433390620
designator L?, comment 6.2uH, 7.2A
WE-CHSA Performance SMT High Current Inductor, size 1011, 6.2uH, 7.2A, 15.9mOhm; Manufacturer Part Number: 78433390620; Manufacturer: Wurth Elektronik; Case/Size Code: 1011; Saturation Current: 18A; Self Resonant Frequency: 34MHz; Category: Power Inductors; Match Code: WE-CHSA; ComponentLink1Description: Website Link; ComponentLink1URL: https://www.we-online.com/redexpert/article/78433390620?ad; ComponentLink2Description: Datasheet Link; ComponentLink2URL: https://www.we-online.com/redexpert/spec/78433390620?ad; Mount: Surface Mount; Operating Temperature Min: -55°C; Operating Temperature Max: 150°C; Packaging: Tape and Reel; Length: 10.6mm; Width: 10.6mm; Height: 11mm; Automotive: Yes; DC Resistance: 15.9mOhm; Inductance: 6.2uH; Rated Current: 7.2A
footprint WE-CHSA_1011
simulation model 1011_78433390620_6.2u
pins: 1, 2

## 78433390820
designator L?, comment 8.2uH, 6.7A
WE-CHSA Performance SMT High Current Inductor, size 1011, 8.2uH, 6.7A, 21.5mOhm; Manufacturer Part Number: 78433390820; Manufacturer: Wurth Elektronik; Case/Size Code: 1011; Saturation Current: 15.6A; Self Resonant Frequency: 30MHz; Category: Power Inductors; Match Code: WE-CHSA; ComponentLink1Description: Website Link; ComponentLink1URL: https://www.we-online.com/redexpert/article/78433390820?ad; ComponentLink2Description: Datasheet Link; ComponentLink2URL: https://www.we-online.com/redexpert/spec/78433390820?ad; Mount: Surface Mount; Operating Temperature Min: -55°C; Operating Temperature Max: 150°C; Packaging: Tape and Reel; Length: 10.6mm; Width: 10.6mm; Height: 11mm; Automotive: Yes; DC Resistance: 21.5mOhm; Inductance: 8.2uH; Rated Current: 6.7A
footprint WE-CHSA_1011
simulation model 1011_78433390820_8.2u
pins: 1, 2

## 78433391000
designator L?, comment 10uH, 5.6A
WE-CHSA Performance SMT High Current Inductor, size 1011, 10uH, 5.6A, 27.7mOhm; Manufacturer Part Number: 78433391000; Manufacturer: Wurth Elektronik; Case/Size Code: 1011; Saturation Current: 14.4A; Self Resonant Frequency: 28MHz; Category: Power Inductors; Match Code: WE-CHSA; ComponentLink1Description: Website Link; ComponentLink1URL: https://www.we-online.com/redexpert/article/78433391000?ad; ComponentLink2Description: Datasheet Link; ComponentLink2URL: https://www.we-online.com/redexpert/spec/78433391000?ad; Mount: Surface Mount; Operating Temperature Min: -55°C; Operating Temperature Max: 150°C; Packaging: Tape and Reel; Length: 10.6mm; Width: 10.6mm; Height: 11mm; Automotive: Yes; DC Resistance: 27.7mOhm; Inductance: 10uH; Rated Current: 5.6A
footprint WE-CHSA_1011
simulation model 1011_78433391000_10u
pins: 1, 2

## 78433391500
designator L?, comment 15uH, 4.3A
WE-CHSA Performance SMT High Current Inductor, size 1011, 15uH, 4.3A, 50.8mOhm; Manufacturer Part Number: 78433391500; Manufacturer: Wurth Elektronik; Case/Size Code: 1011; Saturation Current: 11.3A; Self Resonant Frequency: 20MHz; Category: Power Inductors; Match Code: WE-CHSA; ComponentLink1Description: Website Link; ComponentLink1URL: https://www.we-online.com/redexpert/article/78433391500?ad; ComponentLink2Description: Datasheet Link; ComponentLink2URL: https://www.we-online.com/redexpert/spec/78433391500?ad; Mount: Surface Mount; Operating Temperature Min: -55°C; Operating Temperature Max: 150°C; Packaging: Tape and Reel; Length: 10.6mm; Width: 10.6mm; Height: 11mm; Automotive: Yes; DC Resistance: 50.8mOhm; Inductance: 15uH; Rated Current: 4.3A
footprint WE-CHSA_1011
simulation model 1011_78433391500_15u
pins: 1, 2

## 78433490036
designator L?, comment 0.36uH, 19A
WE-CHSA Performance SMT High Current Inductor, size 8090, 0.36uH, 19A, 2.3mOhm; Manufacturer Part Number: 78433490036; Manufacturer: Wurth Elektronik; Case/Size Code: 8090; Saturation Current: 48.5A; Self Resonant Frequency: 218MHz; Category: Power Inductors; Match Code: WE-CHSA; ComponentLink1Description: Website Link; ComponentLink1URL: https://www.we-online.com/redexpert/article/78433490036?ad; ComponentLink2Description: Datasheet Link; ComponentLink2URL: https://www.we-online.com/redexpert/spec/78433490036?ad; Mount: Surface Mount; Operating Temperature Min: -55°C; Operating Temperature Max: 150°C; Packaging: Tape and Reel; Length: 8.1mm; Width: 8.1mm; Height: 9mm; Automotive: Yes; DC Resistance: 2.3mOhm; Inductance: 0.36uH; Rated Current: 19A
footprint WE-CHSA_8090
simulation model 8090_78433490036_0.36u
pins: 1, 2

## 78433490056
designator L?, comment 0.56uH, 15.6A
WE-CHSA Performance SMT High Current Inductor, size 8090, 0.56uH, 15.6A, 3.45mOhm; Manufacturer Part Number: 78433490056; Manufacturer: Wurth Elektronik; Case/Size Code: 8090; Saturation Current: 40.5A; Self Resonant Frequency: 184MHz; Category: Power Inductors; Match Code: WE-CHSA; ComponentLink1Description: Website Link; ComponentLink1URL: https://www.we-online.com/redexpert/article/78433490056?ad; ComponentLink2Description: Datasheet Link; ComponentLink2URL: https://www.we-online.com/redexpert/spec/78433490056?ad; Mount: Surface Mount; Operating Temperature Min: -55°C; Operating Temperature Max: 150°C; Packaging: Tape and Reel; Length: 8.1mm; Width: 8.1mm; Height: 9mm; Automotive: Yes; DC Resistance: 3.45mOhm; Inductance: 0.56uH; Rated Current: 15.6A
footprint WE-CHSA_8090
simulation model 8090_78433490056_0.56u
pins: 1, 2

## 78433490075
designator L?, comment 0.75uH, 12.8A
WE-CHSA Performance SMT High Current Inductor, size 8090, 0.75uH, 12.8A, 4.9mOhm; Manufacturer Part Number: 78433490075; Manufacturer: Wurth Elektronik; Case/Size Code: 8090; Saturation Current: 34.5A; Self Resonant Frequency: 154MHz; Category: Power Inductors; Match Code: WE-CHSA; ComponentLink1Description: Website Link; ComponentLink1URL: https://www.we-online.com/redexpert/article/78433490075?ad; ComponentLink2Description: Datasheet Link; ComponentLink2URL: https://www.we-online.com/redexpert/spec/78433490075?ad; Mount: Surface Mount; Operating Temperature Min: -55°C; Operating Temperature Max: 150°C; Packaging: Tape and Reel; Length: 8.1mm; Width: 8.1mm; Height: 9mm; Automotive: Yes; DC Resistance: 4.9mOhm; Inductance: 0.75uH; Rated Current: 12.8A
footprint WE-CHSA_8090
simulation model 8090_78433490075_0.75u
pins: 1, 2

## 78433490160
designator L?, comment 1.6uH, 8.4A
WE-CHSA Performance SMT High Current Inductor, size 8090, 1.6uH, 8.4A, 10mOhm; Manufacturer Part Number: 78433490160; Manufacturer: Wurth Elektronik; Case/Size Code: 8090; Saturation Current: 22.3A; Self Resonant Frequency: 93MHz; Category: Power Inductors; Match Code: WE-CHSA; ComponentLink1Description: Website Link; ComponentLink1URL: https://www.we-online.com/redexpert/article/78433490160?ad; ComponentLink2Description: Datasheet Link; ComponentLink2URL: https://www.we-online.com/redexpert/spec/78433490160?ad; Mount: Surface Mount; Operating Temperature Min: -55°C; Operating Temperature Max: 150°C; Packaging: Tape and Reel; Length: 8.1mm; Width: 8.1mm; Height: 9mm; Automotive: Yes; DC Resistance: 10mOhm; Inductance: 1.6uH; Rated Current: 8.4A
footprint WE-CHSA_8090
simulation model 8090_78433490160_1.6u
pins: 1, 2

## 78433490240
designator L?, comment 2.4uH, 6.8A
WE-CHSA Performance SMT High Current Inductor, size 8090, 2.4uH, 6.8A, 15.35mOhm; Manufacturer Part Number: 78433490240; Manufacturer: Wurth Elektronik; Case/Size Code: 8090; Saturation Current: 18.4A; Self Resonant Frequency: 80MHz; Category: Power Inductors; Match Code: WE-CHSA; ComponentLink1Description: Website Link; ComponentLink1URL: https://www.we-online.com/redexpert/article/78433490240?ad; ComponentLink2Description: Datasheet Link; ComponentLink2URL: https://www.we-online.com/redexpert/spec/78433490240?ad; Mount: Surface Mount; Operating Temperature Min: -55°C; Operating Temperature Max: 150°C; Packaging: Tape and Reel; Length: 8.1mm; Width: 8.1mm; Height: 9mm; Automotive: Yes; DC Resistance: 15.35mOhm; Inductance: 2.4uH; Rated Current: 6.8A
footprint WE-CHSA_8090
simulation model 8090_78433490240_2.4u
pins: 1, 2

## 78433490390
designator L?, comment 3.9uH, 5A
WE-CHSA Performance SMT High Current Inductor, size 8090, 3.9uH, 5A, 24.1mOhm; Manufacturer Part Number: 78433490390; Manufacturer: Wurth Elektronik; Case/Size Code: 8090; Saturation Current: 14.6A; Self Resonant Frequency: 65MHz; Category: Power Inductors; Match Code: WE-CHSA; ComponentLink1Description: Website Link; ComponentLink1URL: https://www.we-online.com/redexpert/article/78433490390?ad; ComponentLink2Description: Datasheet Link; ComponentLink2URL: https://www.we-online.com/redexpert/spec/78433490390?ad; Mount: Surface Mount; Operating Temperature Min: -55°C; Operating Temperature Max: 150°C; Packaging: Tape and Reel; Length: 8.1mm; Width: 8.1mm; Height: 9mm; Automotive: Yes; DC Resistance: 24.1mOhm; Inductance: 3.9uH; Rated Current: 5A
footprint WE-CHSA_8090
simulation model 8090_78433490390_3.9u
pins: 1, 2